# Altium footprint library PCB2.PcbLib: 48 footprints (part 3 of 3)
Each footprint in its own frame and in the unit in brackets; x right, y up, seen from the top. Pads: shape width x height; smd on the part's side, far side on the other; paste and mask are expansions set on the pad; w line width, h text height; cw(c..) or ccw(c..) is an arc to the next point about the centre after c.
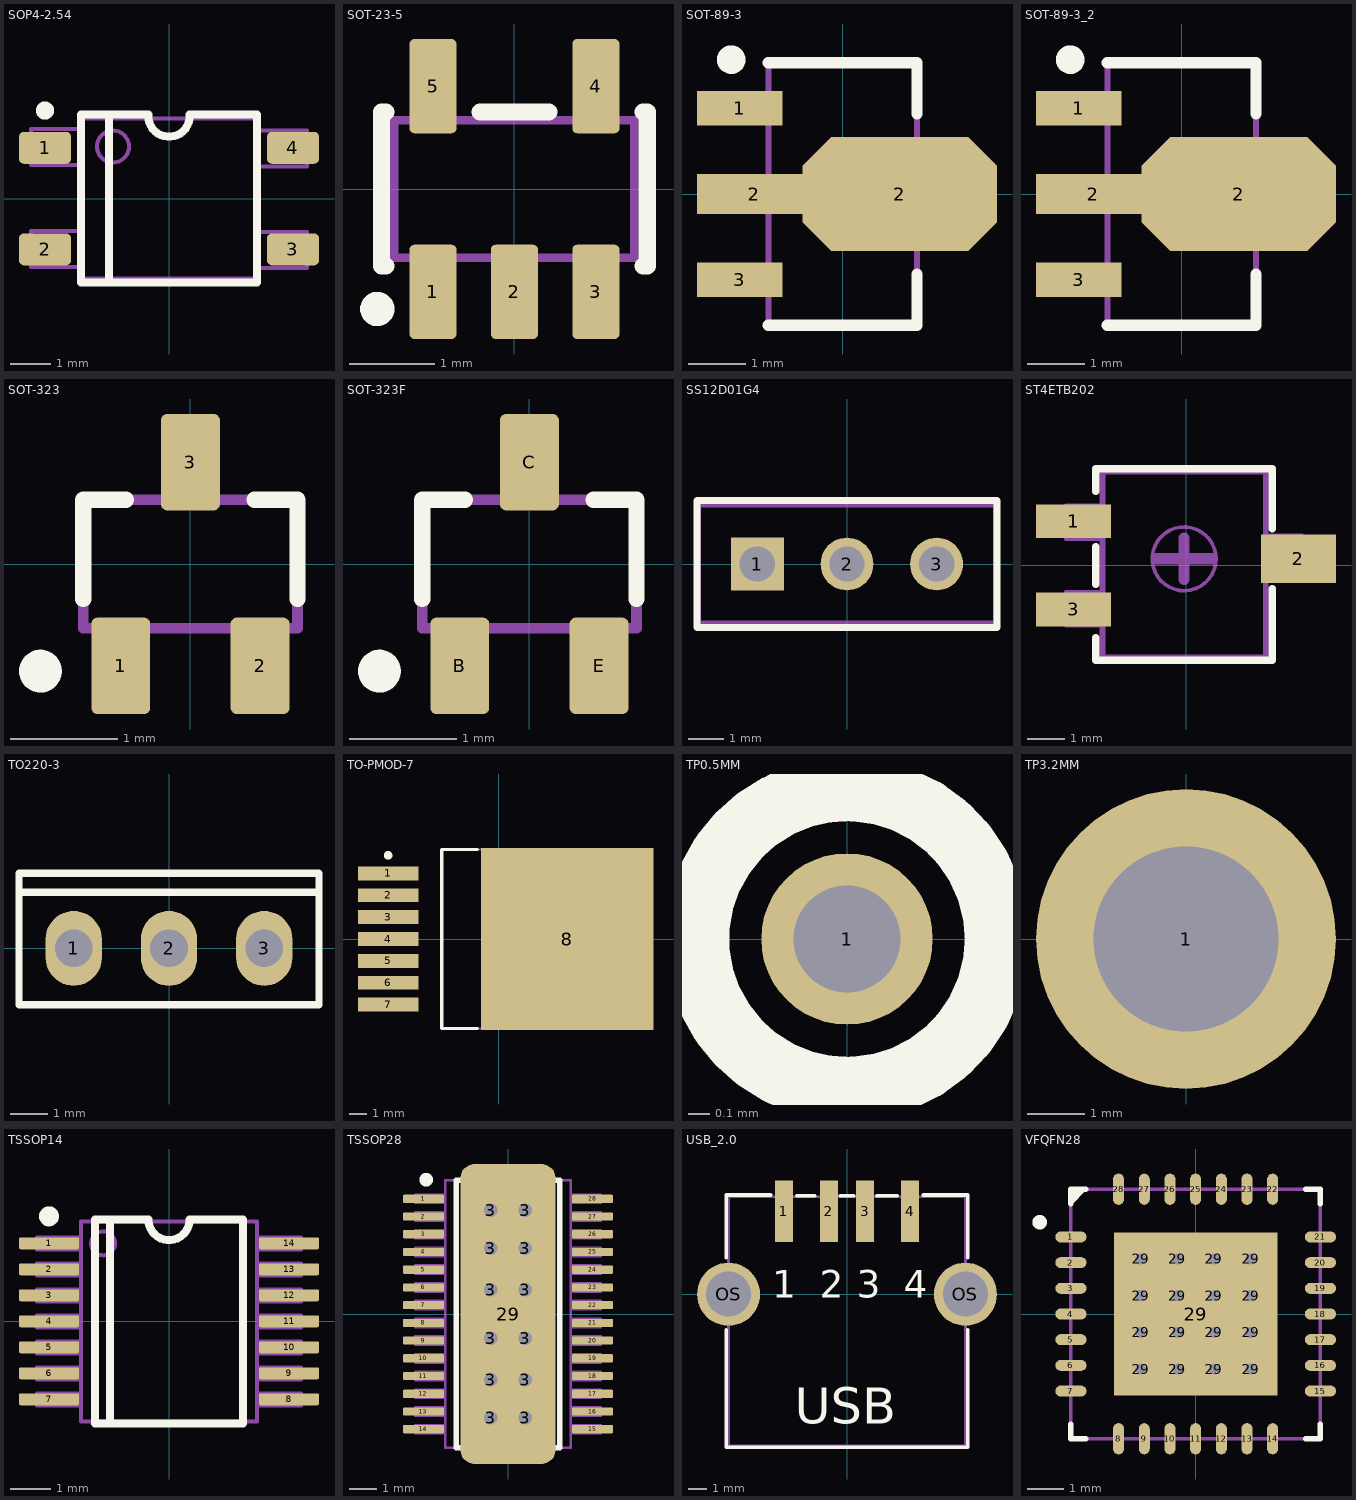
[diagram p2: the footprints below, top view; thin cyan lines are the x and y axes]

## SOP4-2.54 [mm] "4-Leads, Body 4.4x4.3mm, Pitch 2.54mm"
height 2
pads (4):
  rrect30% 1.3x0.8 smd: 1(-3.1,1.27) 2(-3.1,-1.27) 3(3.1,-1.27) 4(3.1,1.27)
Top Overlay:
  circle w0.254: c-3.1,2.2 r0.1
  lines w0.2: -1.5,-2.1 -1.5,2.1 ; -0.517,2.062 ccw(c0,2.062) 0.517,2.062 ; -0.517,2.1 -2.2,2.1 -2.2,-2.1 2.2,-2.1 2.2,2.1 0.517,2.1
Mechanical 5:
  circle w0.1: c-1.4,1.3 r0.4
  lines w0.1: -2.2,-1.705 -3.45,-1.705 -3.45,-0.805 -2.2,-0.805 ; -2.2,0.835 -3.45,0.835 -3.45,1.735 -2.2,1.735 ; 2.2,-1.735 3.45,-1.735 3.45,-0.835 2.2,-0.835 ; 2.2,0.805 3.45,0.805 3.45,1.705 2.2,1.705 ; -2.2,-2 -2.2,2 2.2,2 2.2,-2 -2.2,-2
  text ".designator" at -1.75,-0.3 h0.8
Mechanical 13:
  lines w0.1: -2.2,-2 2.2,-2 2.2,2 -2.2,2 -2.2,-2
3D body "User Library-4-SOP.STEP": height 2.1, standoff 0, extent -3.4,-2.15 3.4,2.15

## SOT-23-5 [mm]
pads (5):
  rrect20% 0.55x1.1 smd: 1(-0.95,-1.2) 2(0,-1.2) 3(0.95,-1.2) 4(0.95,1.2) 5(-0.95,1.2)
Top Overlay:
  circle w0.2: c-1.6,-1.4 r0.1
  lines w0.2: -1.5,-0.9 -1.55,-0.9 -1.55,0.9 -1.5,0.9 ; -0.4,0.9 0.4,0.9 ; 1.5,-0.9 1.55,-0.9 1.55,0.9 1.5,0.9
Mechanical 5:
  rectangle: -1.15,-1.4 -0.75,-0.8
  lines w0.1: -1.15,-0.8 -1.15,-1.4 -0.75,-1.4 -0.75,-0.8 ; -1.15,0.8 -1.15,1.4 -0.75,1.4 -0.75,0.8 ; -0.2,-0.8 -0.2,-1.4 0.2,-1.4 0.2,-0.8 ; 0.75,-0.8 0.75,-1.4 1.15,-1.4 1.15,-0.8 ; 0.75,0.8 0.75,1.4 1.15,1.4 1.15,0.8 ; -1.4,-0.8 1.4,-0.8 1.4,0.8 -1.4,0.8 -1.4,-0.8
  text ".designator" at -1.23,-0.31 h0.55
Mechanical 13:
  lines w0.1: -1.15,-0.8 -1.15,-1.4 -0.75,-1.4 -0.75,-0.8 ; -1.15,0.8 -1.15,1.4 -0.75,1.4 -0.75,0.8 ; -0.2,-0.8 -0.2,-1.4 0.2,-1.4 0.2,-0.8 ; 0.75,-0.8 0.75,-1.4 1.15,-1.4 1.15,-0.8 ; 0.75,0.8 0.75,1.4 1.15,1.4 1.15,0.8 ; -1.4,-0.8 -1.4,0.8 1.4,0.8 1.4,-0.8 -1.4,-0.8
3D body "User Library-SOT23-5.STEP": height 1.24, standoff 0.14, extent -1.45,-1.4 1.449,1.4

## SOT-89-3 [mm]
pads (4):
  rect 1.5x0.6 smd: 1(-1.8,1.5) 3(-1.8,-1.5)
  rect 2x0.7 smd: 2(-1.55,0)
  oct 3.4x2 smd: 2(1,0)
Top Overlay:
  circle w0.25: c-1.95,2.35 r0.125
  lines w0.2: -1.3,-2.3 1.3,-2.3 1.3,-1.4 ; -1.3,2.3 1.3,2.3 1.3,1.4
Mechanical 5:
  rectangle: -2.3,1.3 -1.3,1.7
  lines w0.1: -1.3,-1.7 -2.3,-1.7 -2.3,-1.3 -1.3,-1.3 ; -1.3,-0.25 -2.3,-0.25 -2.3,0.25 -1.3,0.25 ; -1.3,1.3 -2.3,1.3 -2.3,1.7 -1.3,1.7 ; 1.3,-0.8 1.8,-0.8 1.8,0.8 1.3,0.8 ; -1.3,-2.3 1.3,-2.3 1.3,2.3 -1.3,2.3 -1.3,-2.3
  text ".designator" at -0.45,2 h0.9
Mechanical 13:
  rectangle: -2.3,1.3 -1.3,1.7
  lines w0.1: -1.3,-1.7 -2.3,-1.7 -2.3,-1.3 -1.3,-1.3 ; -1.3,-0.25 -2.3,-0.25 -2.3,0.25 -1.3,0.25 ; -1.3,1.3 -2.3,1.3 -2.3,1.7 -1.3,1.7 ; 1.3,-0.8 1.8,-0.8 1.8,0.8 1.3,0.8 ; -1.3,-2.3 -1.3,2.3 1.3,2.3 1.3,-2.3 -1.3,-2.3
3D body "User Library-SOT89-3.STEP": height 1.54, standoff 0, extent -2.2,-2.25 2.05,2.25

## SOT-89-3_2 [mm]
pads (4):
  rect 1.5x0.6 smd: 1(-1.8,1.5) 3(-1.8,-1.5)
  rect 2x0.7 smd: 2(-1.55,0)
  oct 3.4x2 smd: 2(1,0)
Top Overlay:
  circle w0.25: c-1.95,2.35 r0.125
  lines w0.2: -1.3,-2.3 1.3,-2.3 1.3,-1.4 ; -1.3,2.3 1.3,2.3 1.3,1.4
Mechanical 5:
  rectangle: -2.3,1.3 -1.3,1.7
  lines w0.1: -1.3,-1.7 -2.3,-1.7 -2.3,-1.3 -1.3,-1.3 ; -1.3,-0.25 -2.3,-0.25 -2.3,0.25 -1.3,0.25 ; -1.3,1.3 -2.3,1.3 -2.3,1.7 -1.3,1.7 ; 1.3,-0.8 1.8,-0.8 1.8,0.8 1.3,0.8 ; -1.3,-2.3 1.3,-2.3 1.3,2.3 -1.3,2.3 -1.3,-2.3
  text ".designator" at -0.45,2 h0.9
Mechanical 13:
  rectangle: -2.3,1.3 -1.3,1.7
  lines w0.1: -1.3,-1.7 -2.3,-1.7 -2.3,-1.3 -1.3,-1.3 ; -1.3,-0.25 -2.3,-0.25 -2.3,0.25 -1.3,0.25 ; -1.3,1.3 -2.3,1.3 -2.3,1.7 -1.3,1.7 ; 1.3,-0.8 1.8,-0.8 1.8,0.8 1.3,0.8 ; -1.3,-2.3 -1.3,2.3 1.3,2.3 1.3,-2.3 -1.3,-2.3
3D body "User Library-SOT89-3.STEP": height 1.54, standoff 0, extent -2.2,-2.25 2.05,2.25

## SOT-323 [mm] "SOT-323/SC-70; 3 Leads; Body 2.2 x 2.2 mm, inc. leads (LxW max)"
height 1.1
pads (3):
  rrect20% 0.55x0.9 smd: 1(-0.65,-0.95) 2(0.65,-0.95) 3(0,0.95)
Top Overlay:
  circle w0.2: c-1.4,-1 r0.1
  lines w0.15: -1,-0.325 -1,0.6 -0.6,0.6 ; 0.6,0.6 1,0.6 1,-0.325
Mechanical 5:
  rectangle: -0.85,-1.1 -0.45,-0.6
  lines w0.1: -0.85,-0.6 -0.85,-1.1 -0.45,-1.1 -0.45,-0.6 ; -0.2,0.6 -0.2,1.1 0.2,1.1 0.2,0.6 ; 0.45,-0.6 0.45,-1.1 0.85,-1.1 0.85,-0.6 ; -1,-0.6 -1,0.6 1,0.6 1,-0.6 -1,-0.6
  text ".designator" at -0.85,-0.2 h0.4
Mechanical 13:
  lines w0.1: -0.85,-0.6 -0.85,-1.1 -0.45,-1.1 -0.45,-0.6 ; -0.2,0.6 -0.2,1.1 0.2,1.1 0.2,0.6 ; 0.45,-0.6 0.45,-1.1 0.85,-1.1 0.85,-0.6 ; -1,-0.6 1,-0.6 1,0.6 -1,0.6 -1,-0.6
3D body "User Library-SOT323 (SC70-3)-1.STEP": height 1.1, standoff 0, extent -1.1,-1.122 1.1,1.123

## SOT-323F [mm] "SOT-323/SC-70; 3 Leads; Body 2.2 x 2.2 mm, inc. leads (LxW max)"
height 1.1
pads (3):
  rrect20% 0.55x0.9 smd: B(-0.65,-0.95) C(0,0.95) E(0.65,-0.95)
Top Overlay:
  circle w0.2: c-1.4,-1 r0.1
  lines w0.15: -1,-0.325 -1,0.6 -0.6,0.6 ; 0.6,0.6 1,0.6 1,-0.325
Mechanical 5:
  rectangle: -0.85,-1.1 -0.45,-0.6
  lines w0.1: -0.85,-0.6 -0.85,-1.1 -0.45,-1.1 -0.45,-0.6 ; -0.2,0.6 -0.2,1.1 0.2,1.1 0.2,0.6 ; 0.45,-0.6 0.45,-1.1 0.85,-1.1 0.85,-0.6 ; -1,-0.6 -1,0.6 1,0.6 1,-0.6 -1,-0.6
  text ".designator" at -0.85,-0.2 h0.4
Mechanical 13:
  lines w0.1: -0.85,-0.6 -0.85,-1.1 -0.45,-1.1 -0.45,-0.6 ; -0.2,0.6 -0.2,1.1 0.2,1.1 0.2,0.6 ; 0.45,-0.6 0.45,-1.1 0.85,-1.1 0.85,-0.6 ; -1,-0.6 1,-0.6 1,0.6 -1,0.6 -1,-0.6
3D body "User Library-SOT323 (SC70-3)-1.STEP": height 1.1, standoff 0, extent -1.1,-1.122 1.1,1.123

## SS12D01G4 [mm]
pads (3):
  rect 1.5x1.5 hole 1: 1(-2.54,0)
  round 1.5 hole 1: 2(0,0) 3(2.54,0)
Top Overlay:
  lines w0.2: -4.25,-1.8 4.25,-1.8 4.25,1.8 -4.25,1.8 -4.25,-1.8
Mechanical 5:
  lines w0.1: -4.191,-1.651 -4.191,1.651 4.191,1.651 4.191,-1.651 -4.191,-1.651

## ST4ETB202 [mm]
pads (3):
  rect 2x0.9 smd: 1(-3,1.175) 3(-3,-1.175)
  rect 2x1.3 smd: 2(3,0.175)
Top Overlay:
  lines w0.2: -2.4,-1.925 -2.4,-2.525 2.3,-2.525 2.3,-0.625 ; -2.4,-0.5 -2.4,0.5 ; -2.4,1.975 -2.4,2.575 2.3,2.575 2.3,0.975
Mechanical 5:
  rectangle: -3.2,0.7 -2.25,1.6
  lines w0.1: -2.3,-1.6 -3.2,-1.6 -3.2,-0.7 -2.3,-0.7 ; -2.3,0.7 -3.2,0.7 -3.2,1.6 -2.3,1.6 ; 2.2,-0.4 3.1,-0.4 3.1,0.8 2.2,0.8 ; -2.25,-2.425 2.15,-2.425 2.15,2.6 -2.25,2.6 -2.25,-2.425
  text ".designator" at -0.4,1.675 h0.7
Mechanical 13:
  circle w0.1: c-0.05,0.175 r0.85
  lines w0.1: -2.2,-1.6 -3.2,-1.6 -3.2,-0.7 -2.2,-0.7 ; -2.2,0.7 -3.2,0.7 -3.2,1.6 -2.2,1.6 ; 2.1,-0.4 3.1,-0.4 3.1,0.8 2.1,0.8 ; -2.2,-2.525 2.1,-2.525 2.1,2.475 -2.2,2.475 -2.2,-2.525
  lines w0.3: -0.8,0.175 0.7,0.175 ; -0.05,-0.375 -0.05,0.725

## TO220-3 [mm]
pads (3):
  oval 1.5x2 hole 1: 1(-2.54,0) 2(0,0) 3(2.54,0)
Top Overlay:
  lines w0.2: -4,1.5 4,1.5 ; -4,-1.5 -4,2 4,2 4,-1.5 -4,-1.5
Mechanical 5:
  lines w0.1: -4,1.5 4,1.5 ; -4,-1.5 -4,2 4,2 4,-1.5 -4,-1.5

## TO-PMOD-7 [mm]
pads (8):
  rect 3.5x0.8 smd: 1(-6.425,3.81) 2(-6.425,2.54) 3(-6.425,1.27) 4(-6.425,0) 5(-6.425,-1.27) 6(-6.425,-2.54) 7(-6.425,-3.81)
  rect 10x10.55 smd: 8(3.975,0)
Top Overlay:
  circle w0.25: c-6.425,4.86 r0.125
  lines w0.2: -1.25,-5.2 -3.3,-5.2 -3.3,5.2 -1.25,5.2
Mechanical 5:
  lines w0.1: 6.1,-5.2 6.1,5.2 ; 6.1,-5.2 -3.3,-5.2 -3.3,5.2 6.1,5.2 ; 6.1,-5.2 7.7,-5.2 ; 6.1,5.2 7.7,5.2 ; 7.7,-5.2 7.7,5.2 ; 7.7,-5.2 7.7,-5.2 ; 7.7,5.2 7.7,5.2
Mechanical 13:
  lines w0.1: 6.1,-5.2 7.7,-5.2 ; 6.1,-5.2 -3.3,-5.2 -3.3,5.2 6.1,5.2 ; 6.1,-5.2 6.1,5.2 ; 6.1,5.2 7.7,5.2 ; 7.7,-5.2 7.7,-5.2 ; 7.7,-5.2 7.7,5.2 ; 7.7,5.2 7.7,5.2
3D body "User Library-TO-PMOD-7-1.step": height 4.57, standoff 0, extent -6.45,-5.08 7.325,5.08

## TP0.5MM [mm]
pads (1):
  round 0.8 hole 0.5: 1(0,0)
Top Overlay:
  circle w0.3: c0,0 r0.7
Bottom Overlay:
  circle w0.3: c0,0 r0.7

## TP3.2MM [mm]
pads (1):
  round 5.2 hole 3.2: 1(0,0)

## TSSOP14 [mm]
pads (14):
  rrect30% 1.5x0.3 smd: 1(-3,1.95) 2(-3,1.3) 3(-3,0.65) 4(-3,0) 5(-3,-0.65) 6(-3,-1.3) 7(-3,-1.95) 8(3,-1.95) 9(3,-1.3) 10(3,-0.65) 11(3,0) 12(3,0.65) 13(3,1.3) 14(3,1.95)
Top Overlay:
  circle w0.25: c-3,2.625 r0.125
  lines w0.2: -1.475,-2.55 -1.475,2.55 ; -1.85,-2.55 1.85,-2.55 1.85,2.55 0.517,2.55 cw(c0,2.55) -0.517,2.55 -1.85,2.55 -1.85,-2.55
Mechanical 5:
  circle w0.1: c-1.65,1.95 r0.3
  lines w0.1: -2.2,-2.1 -3.3,-2.1 -3.3,-1.8 -2.2,-1.8 ; -2.2,-1.45 -3.3,-1.45 -3.3,-1.15 -2.2,-1.15 ; -2.2,-0.8 -3.3,-0.8 -3.3,-0.5 -2.2,-0.5 ; -2.2,-0.15 -3.3,-0.15 -3.3,0.15 -2.2,0.15 ; -2.2,0.5 -3.3,0.5 -3.3,0.8 -2.2,0.8 ; -2.2,1.15 -3.3,1.15 -3.3,1.45 -2.2,1.45 ; -2.2,1.8 -3.3,1.8 -3.3,2.1 -2.2,2.1 ; 2.2,-2.1 3.3,-2.1 3.3,-1.8 2.2,-1.8 ; 2.2,-1.45 3.3,-1.45 3.3,-1.15 2.2,-1.15 ; 2.2,-0.8 3.3,-0.8 3.3,-0.5 2.2,-0.5 ; 2.2,-0.15 3.3,-0.15 3.3,0.15 2.2,0.15 ; 2.2,0.5 3.3,0.5 3.3,0.8 2.2,0.8 ; 2.2,1.15 3.3,1.15 3.3,1.45 2.2,1.45 ; 2.2,1.8 3.3,1.8 3.3,2.1 2.2,2.1 ; -2.2,-2.5 2.2,-2.5 2.2,2.5 -2.2,2.5 -2.2,-2.5
  text ".designator" at -1.75,-0.4 h0.8
Mechanical 13:
  lines w0.1: -2.2,-2.1 -3.3,-2.1 -3.3,-1.8 -2.2,-1.8 ; -2.2,-1.45 -3.3,-1.45 -3.3,-1.15 -2.2,-1.15 ; -2.2,-0.8 -3.3,-0.8 -3.3,-0.5 -2.2,-0.5 ; -2.2,-0.15 -3.3,-0.15 -3.3,0.15 -2.2,0.15 ; -2.2,0.5 -3.3,0.5 -3.3,0.8 -2.2,0.8 ; -2.2,1.15 -3.3,1.15 -3.3,1.45 -2.2,1.45 ; -2.2,1.8 -3.3,1.8 -3.3,2.1 -2.2,2.1 ; 2.2,-2.1 3.3,-2.1 3.3,-1.8 2.2,-1.8 ; 2.2,-1.45 3.3,-1.45 3.3,-1.15 2.2,-1.15 ; 2.2,-0.8 3.3,-0.8 3.3,-0.5 2.2,-0.5 ; 2.2,-0.15 3.3,-0.15 3.3,0.15 2.2,0.15 ; 2.2,0.5 3.3,0.5 3.3,0.8 2.2,0.8 ; 2.2,1.15 3.3,1.15 3.3,1.45 2.2,1.45 ; 2.2,1.8 3.3,1.8 3.3,2.1 2.2,2.1 ; -2.2,-2.5 -2.2,2.5 2.2,2.5 2.2,-2.5 -2.2,-2.5
3D body: height 1.8, standoff 0, extent -1.85,-2.55 1.85,2.55

## TSSOP28 [mm]
pads (41):
  rrect30% 1.5x0.3 smd: 1(-3.1,4.225) 2(-3.1,3.575) 3(-3.1,2.925) 4(-3.1,2.275) 5(-3.1,1.625) 6(-3.1,0.975) 7(-3.1,0.325) 8(-3.1,-0.325) 9(-3.1,-0.975) 10(-3.1,-1.625) 11(-3.1,-2.275) 12(-3.1,-2.925) 13(-3.1,-3.575) 14(-3.1,-4.225) 15(3.1,-4.225) 16(3.1,-3.575) 17(3.1,-2.925) 18(3.1,-2.275) 19(3.1,-1.625) 20(3.1,-0.975) 21(3.1,-0.325) 22(3.1,0.325) 23(3.1,0.975) 24(3.1,1.625) 25(3.1,2.275) 26(3.1,2.925) 27(3.1,3.575) 28(3.1,4.225)
  round 0.8 hole 0.5: 3(-0.635,-3.81) 3(-0.635,-2.413) 3(-0.635,-0.889) 3(-0.635,0.889) 3(-0.635,2.413) 3(-0.635,3.81) 3(0.635,-3.81) 3(0.635,-2.413) 3(0.635,-0.889) 3(0.635,0.889) 3(0.635,2.413) 3(0.635,3.81)
  rrect30% 3.5x11 smd: 29(0,0)
Top Overlay:
  circle w0.25: c-3,4.925 r0.125
  lines w0.2: -1.475,-4.9 -1.475,4.9 ; -1.9,-4.9 1.9,-4.9 1.9,4.9 0.517,4.9 cw(c0,4.9) -0.517,4.9 -1.9,4.9 -1.9,-4.9
Mechanical 5:
  rectangle: -3.4,4.075 -2.3,4.375
  lines w0.1: -2.3,-4.375 -3.4,-4.375 -3.4,-4.075 -2.3,-4.075 ; -2.3,-3.725 -3.4,-3.725 -3.4,-3.425 -2.3,-3.425 ; -2.3,-3.075 -3.4,-3.075 -3.4,-2.775 -2.3,-2.775 ; -2.3,-2.425 -3.4,-2.425 -3.4,-2.125 -2.3,-2.125 ; -2.3,-1.775 -3.4,-1.775 -3.4,-1.475 -2.3,-1.475 ; -2.3,-1.125 -3.4,-1.125 -3.4,-0.825 -2.3,-0.825 ; -2.3,-0.475 -3.4,-0.475 -3.4,-0.175 -2.3,-0.175 ; -2.3,0.175 -3.4,0.175 -3.4,0.475 -2.3,0.475 ; -2.3,0.825 -3.4,0.825 -3.4,1.125 -2.3,1.125 ; -2.3,1.475 -3.4,1.475 -3.4,1.775 -2.3,1.775 ; -2.3,2.125 -3.4,2.125 -3.4,2.425 -2.3,2.425 ; -2.3,2.775 -3.4,2.775 -3.4,3.075 -2.3,3.075 ; -2.3,3.425 -3.4,3.425 -3.4,3.725 -2.3,3.725 ; -2.3,4.075 -3.4,4.075 -3.4,4.375 -2.3,4.375 ; 2.3,-4.375 3.4,-4.375 3.4,-4.075 2.3,-4.075 ; 2.3,-3.725 3.4,-3.725 3.4,-3.425 2.3,-3.425 ; 2.3,-3.075 3.4,-3.075 3.4,-2.775 2.3,-2.775 ; 2.3,-2.425 3.4,-2.425 3.4,-2.125 2.3,-2.125 ; 2.3,-1.775 3.4,-1.775 3.4,-1.475 2.3,-1.475 ; 2.3,-1.125 3.4,-1.125 3.4,-0.825 2.3,-0.825 ; 2.3,-0.475 3.4,-0.475 3.4,-0.175 2.3,-0.175 ; 2.3,0.175 3.4,0.175 3.4,0.475 2.3,0.475 ; 2.3,0.825 3.4,0.825 3.4,1.125 2.3,1.125 ; 2.3,1.475 3.4,1.475 3.4,1.775 2.3,1.775 ; 2.3,2.125 3.4,2.125 3.4,2.425 2.3,2.425 ; 2.3,2.775 3.4,2.775 3.4,3.075 2.3,3.075 ; 2.3,3.425 3.4,3.425 3.4,3.725 2.3,3.725 ; 2.3,4.075 3.4,4.075 3.4,4.375 2.3,4.375 ; -2.3,-4.9 2.3,-4.9 2.3,4.9 -2.3,4.9 -2.3,-4.9
  text ".designator" at 0.635,-3.81 h1.5
3D body "User Library-PWP (R-PDSO-G28).STEP": height 1.2, standoff 0, extent -3.31,-4.9 3.31,4.9

## USB_2.0 [mm]
pads (6):
  rect 1x3.4 smd: 1(-3.5,4.6) 2(-1,4.6) 3(1,4.6) 4(3.5,4.6)
  round 3.5 hole 2.5: OS(-6.57,0) OS(6.57,0)
Top Overlay:
  lines w0.2: -6.7,-1.99 -6.7,-8.5 6.7,-8.5 6.7,-1.99 ; -6.7,2.01 -6.7,5.5 -4.23,5.5 ; -2.794,5.461 -1.778,5.461 ; -0.381,5.461 0.381,5.461 ; 1.651,5.461 2.794,5.461 ; 4.23,5.5 6.7,5.5 6.7,2.01
  text "4" at 3.15,-0.19 h1.52
  text "3" at 0.55,-0.19 h1.52
  text "2" at -1.5,-0.19 h1.52
  text "1" at -4.14,-0.19 h1.52
  text "USB" at -2.9,-7.2 h2
Mechanical 5:
  lines w0.15: -6.57,-8.4 -6.57,5.4 6.57,5.4 6.57,-8.4 -6.57,-8.4
Mechanical 13:
  lines w0.15: -6.57,-8.4 6.57,-8.4 6.57,5.4 -6.57,5.4 -6.57,-8.4

## VFQFN28 [mm]
pads (45):
  oval 0.85x0.3 smd mask+0.07: 1(-3.4,2.1) 2(-3.4,1.4) 3(-3.4,0.7) 4(-3.4,0) 5(-3.4,-0.7) 6(-3.4,-1.4) 7(-3.4,-2.1) 15(3.4,-2.1) 16(3.4,-1.4) 17(3.4,-0.7) 18(3.4,0) 19(3.4,0.7) 20(3.4,1.4) 21(3.4,2.1)
  oval 0.3x0.85 smd mask+0.07: 8(-2.1,-3.4) 9(-1.4,-3.4) 10(-0.7,-3.4) 11(0,-3.4) 12(0.7,-3.4) 13(1.4,-3.4) 14(2.1,-3.4) 22(2.1,3.4) 23(1.4,3.4) 24(0.7,3.4) 25(0,3.4) 26(-0.7,3.4) 27(-1.4,3.4) 28(-2.1,3.4)
  round 0.6 hole 0.3: 29(-1.5,-1.5) 29(-1.5,-0.5) 29(-1.5,0.5) 29(-1.5,1.5) 29(-0.5,-1.5) 29(-0.5,-0.5) 29(-0.5,0.5) 29(-0.5,1.5) 29(0.5,-1.5) 29(0.5,-0.5) 29(0.5,1.5) 29(1.5,-1.5) 29(1.5,-0.5) 29(1.5,0.5) 29(1.5,1.5)
  rect 4.45x4.45 smd paste-2 mask+0: 29(0,0)
  round 0.6 hole 0.3 paste-2 mask+0: 29(0.5,0.5)
Top Overlay:
  circle w0.2: c-4.25,2.5 r0.1
  lines w0.15: -3.4,-3 -3.4,-3.4 -3,-3.4 ; -3.4,3 -3.4,3.4 -3,3.4 ; -3.4,3.05 -3.05,3.4 ; -3.4,3.175 -3.175,3.4 ; 3,-3.4 3.4,-3.4 3.4,-3 ; 3,3.4 3.4,3.4 3.4,3
Top Paste:
  rectangle: -0.65,-0.65 0.65,0.65
Mechanical 5:
  lines w0.1: 3.4,-2.1 3.4,2.1 ; -3.4,-3.4 3.4,-3.4 3.4,3.4 -3.4,3.4 -3.4,-3.4
Mechanical 13:
  lines w0.1: 3.4,-2.1 3.4,2.1 ; -3.4,-3.4 3.4,-3.4 3.4,3.4 -3.4,3.4 -3.4,-3.4
3D body: height 1, standoff 0.02, extent -3.4,-3.4 3.4,3.4